# Altium schematic symbol library TLV9052IDR.SchLib: 1 symbol
Pins are listed as number, name and electrical type; pins without a type are passive.

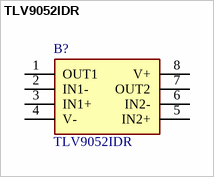
[diagram p0: symbol TLV9052IDR]

## TLV9052IDR
designator B?
Dual 5MHz, 15V/us high slew-rate, RRIO op amp; Manufacturer_Name: Texas Instruments; Geometry.Height: 1.75mm; Mouser Part Number: 595-TLV9052IDR; Mouser Price/Stock: https://www.mouser.co.uk/ProductDetail/Texas-Instruments/TLV9052IDR?qs=qSfuJ%252Bfl%2Fd40FZ%252BJUm2hDA%3D%3D; Manufacturer_Part_Number: TLV9052IDR; Datasheet Link: http://www.ti.com/lit/gpn/TLV9052
footprint SOIC127P600X175-8N
pins: 1 OUT1, 2 IN1-, 3 IN1+, 4 V-, 5 IN2+, 6 IN2-, 7 OUT2, 8 V+